# EAGLE library part OLED-12832 (library CustomParts)
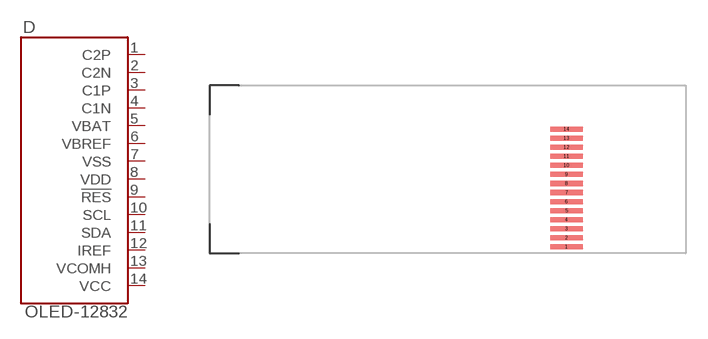
[diagram p0: symbol with the pads of OLED-12832; footprint OLED-12832]

Designator prefix D

## OLED-12832  [OLED-12832]
1  C2P
2  C2N
3  C1P
4  C1N
5  VBAT
6  VBREF
7  VSS
8  VDD
9  !RES!
10  SCL
11  SDA
12  IREF
13  VCOMH
14  VCC

## Footprint OLED-12832 (pad centres in mm)
smd 2.2 x 0.35: 1 8.145,-5.305; 2 8.145,-4.685; 3 8.145,-4.065; 4 8.145,-3.445; 5 8.145,-2.825; 6 8.145,-2.205; 7 8.145,-1.585; 8 8.145,-0.965; 9 8.145,-0.345; 10 8.145,0.275; 11 8.145,0.895; 12 8.145,1.515; 13 8.145,2.135; 14 8.145,2.755